# EAGLE library part 64600711622 (library Wurth_Connectors_WR-WTB)
WR-WTB 2.50 mm Male Shrouded Header KIND PROPERTIES: Pitch:2.5 mm Gender:Male MATERIAL PROPERTIES: Insulator Material :PA46 Insulator Flammability Rating:UL94 V-0 Color:Beige Contact Material:Copper Alloy Contact Plating:Tin Contact Type:Stamped GENERAL INFORMATION Operating Temperature:-40 up to +105 °C Compliance: RoHS Working Voltage:250 V (AC) Withstanding Voltage:1500 V (AC) Contact Resistance:20 mΩ RISO:1000 MΩ CERTIFICATION UL Approval:E323964 PACKAGING PROPERTIES Packaging:Bag <https://katalog.we-online.com/media/images/v2/o33364v209%20Family_WR-WTB_6460xx11622.jpg> Details see: https://katalog.we-online.com/en/em/WTB_2_50_MALE_SHROUDED_HEADER_6460XX11622 Updated by Yingchun,Shan 2019-11-06 2019 (C) Würth Elektronik
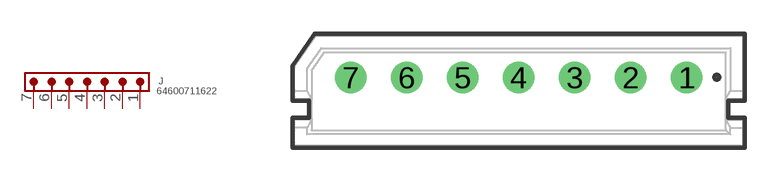
[diagram p36: symbol with the pads of 64600711622; footprint 64600711622]

Designator prefix J

## 64600711622 (CONTACT-RESISTANCE: 20mOhm; DATASHEET-URL: https://www.we-online.com/redexpert/spec/64600711622?ae; GENDER: Male; IR: 3A; L: 20mm; MOUNT: THT; PACKAGING: Bag; PART-NUMBER: 64600711622; PCB-CABLE-PANEL: PCB; PINS: 7; PITCH: 2.5mm; TYPE: Vertical; VALUE: 64600711622; WORKING-VOLTAGE: 250V(AC))  [64600711622]
1  1  pas
2  2  pas
3  3  pas
4  4  pas
5  5  pas
6  6  pas
7  7  pas

## Footprint 64600711622 (pad centres in mm)
WR-WTB 2.50 mm Male Shrouded Header, 7 Pins
drill 0.9: 1 7.5,0.6; 2 5,0.6; 3 2.5,0.6; 4 0,0.6; 5 -2.5,0.6; 6 -5,0.6; 7 -7.5,0.6